# EAGLE library part RJ45_LP (library F030NG)
RJ45 low profile
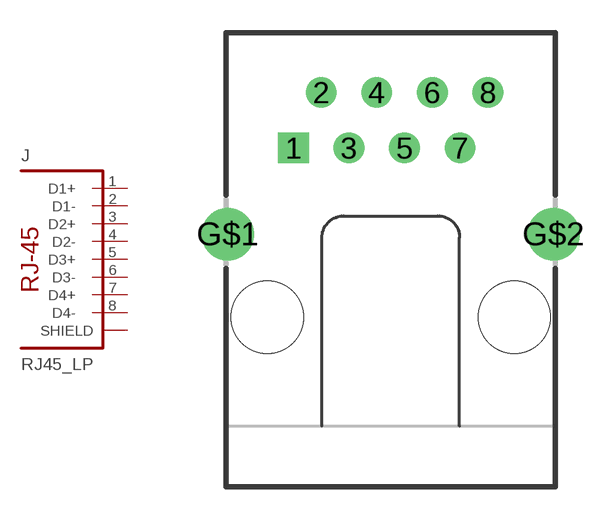
[diagram p77: symbol with the pads of MOLEX_MX-44661-0001; footprint MOLEX_MX-44661-0001]

Designator prefix J

## RJ45_LP  [MOLEX_MX-44661-0001]
1  D1+  pas
2  D1-  pas
3  D2+  pas
4  D2-  pas
5  D3+  pas
6  D3-  pas
7  D4+  pas
8  D4-  pas
G$1  SHIELD
G$2  SHIELD

## Footprint MOLEX_MX-44661-0001 (pad centres in mm)
RJ45/Dual USB Combo
drill 0.9 square: 1 -4.45,12.73
drill 0.9: 2 -3.18,15.27; 3 -1.91,12.73; 4 -0.64,15.27; 5 0.63,12.73; 6 1.9,15.27; 7 3.17,12.73; 8 4.44,15.27
drill 1.6: G$1 -7.45,8.79; G$2 7.45,8.79
hole 3.3 at -5.65,4.98
hole 3.3 at 5.65,4.98